# Altium schematic symbol library 7-seg 3digit Common Cathode.Schlib: 1 symbol
Pins are listed as number, name and electrical type; pins without a type are passive.

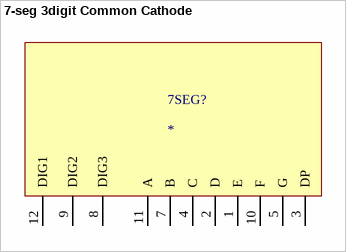
[diagram p0: symbol 7-seg 3digit Common Cathode]

## 7-seg 3digit Common Cathode
designator 7SEG?
footprint 7-seg 0.36in 3-digit
pins: 1 E, 2 D, 3 DP, 4 C, 5 G, 7 B, 8 DIG3, 9 DIG2, 10 F, 11 A, 12 DIG1